# Altium footprint library QRE1113.PcbLib: 1 footprints
Each footprint in its own frame and in the unit in brackets; x right, y up, seen from the top. Pads: shape width x height; smd on the part's side, far side on the other; paste and mask are expansions set on the pad; w line width, h text height; cw(c..) or ccw(c..) is an arc to the next point about the centre after c.
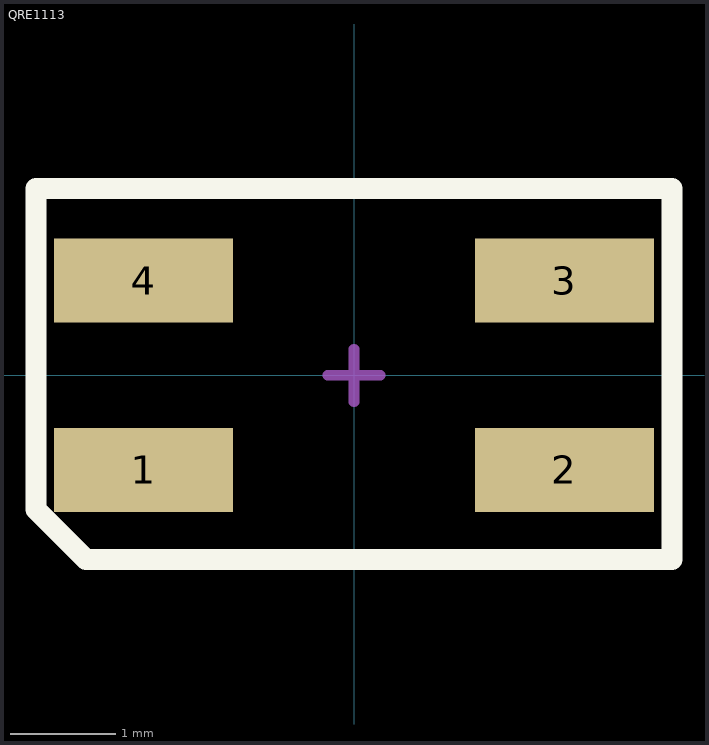
[diagram p0: the footprint, top view; thin cyan lines are the x and y axes]

## QRE1113 [mm]
height 0.55
pads (4):
  rect 1.7x0.8 smd: 1(-2,-0.9) 2(2,-0.9) 3(2,0.9) 4(-2,0.9)
Top Overlay:
  lines w0.2: -3.025,-1.275 -3.025,1.775 3.025,1.775 3.025,-1.75 -2.55,-1.75 -3.025,-1.275
Top Assembly:
  lines w0.1: -0.25,0 0.25,0 ; 0,-0.25 0,0.25 ; -3.025,-1.275 -2.55,-1.75 3.025,-1.75 3.025,1.775 -3.025,1.775 -3.025,-1.275
  text "'.Designator'" at 0,0 h0.7
3D body "KTIR0721DS.STEP": height 1.55, standoff 0.05, extent -2.2,-1.7 2.3,1.7